# Altium schematic symbol library Capacitor Polarized Single.SchLib: 1 symbol
Pins are listed as number, name and electrical type; pins without a type are passive.

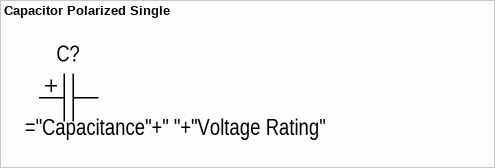
[diagram p0: symbol Capacitor Polarized Single]

## Capacitor Polarized Single
designator C?
pins: 1, 2